# Altium footprint library MLP-14.PcbLib: 1 footprints
Each footprint in its own frame and in the unit in brackets; x right, y up, seen from the top. Pads: shape width x height; smd on the part's side, far side on the other; paste and mask are expansions set on the pad; w line width, h text height; cw(c..) or ccw(c..) is an arc to the next point about the centre after c.
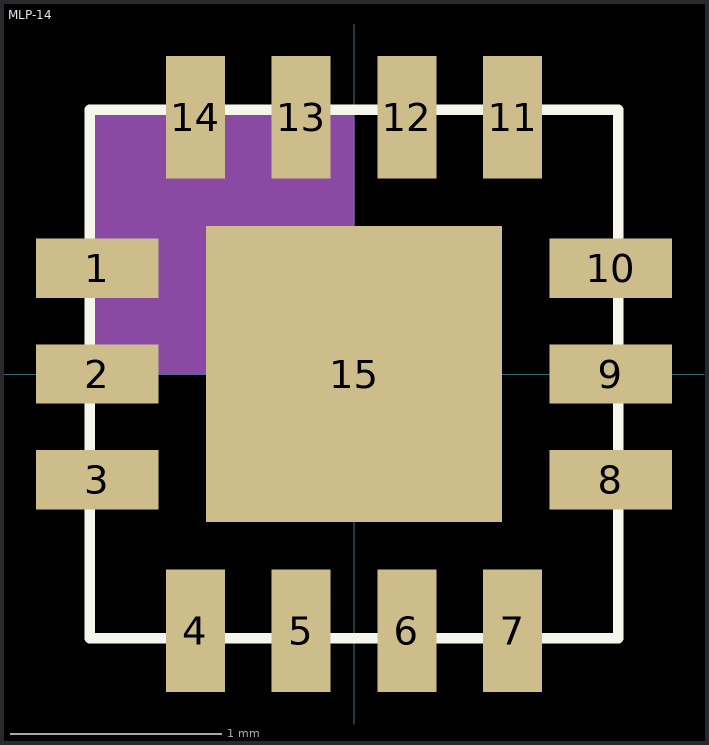
[diagram p0: the footprint, top view; thin cyan lines are the x and y axes]

## MLP-14 [mm]
pads (15):
  rect 0.58x0.28 smd: 1(-1.215,0.5) 2(-1.215,0) 3(-1.215,-0.5) 8(1.215,-0.5) 9(1.215,0) 10(1.215,0.5)
  rect 0.28x0.58 smd: 4(-0.75,-1.215) 5(-0.25,-1.215) 6(0.25,-1.215) 7(0.75,-1.215) 11(0.75,1.215) 12(0.25,1.215) 13(-0.25,1.215) 14(-0.75,1.215)
  rect 1.4x1.4 smd: 15(0,0)
Top Overlay:
  lines w0.05: -1.25,-1.25 -1.25,1.25 1.25,1.25 1.25,-1.25 -1.25,-1.25
Mechanical 13:
  region: 0,0 -1.25,0 -1.25,1.25 0,1.25
3D body "step_temp.STEP": height 0.8, standoff 0, extent -1.25,-1.25 1.25,1.25